# EAGLE library part TLV7111225 (library tlv7111225)
The TLV710 and TLV711 series of dual, low-dropout (LDO) linear regulators are low quiescent current devices with excellent line and load transient performance. These LDOs are designed for power-sensitive applications. These devices provide a typical accuracy of 2% over temperature.
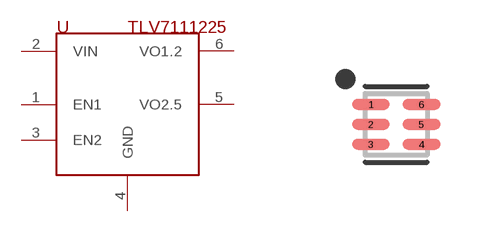
[diagram p0: symbol with the pads of SON50P150X150X80-6N; footprint SON50P150X150X80-6N]

Designator prefix -

## TLV7111225  [SON50P150X150X80-6N]
1  EN1
2  VIN
3  EN2
4  GND
5  VO2.5
6  VO1.2

## Footprint SON50P150X150X80-6N (pad centres in mm)
6-SON (DFN), 0.50 mm pitch, 1.50 X 1.50 X 0.80 mm body 6-pin SON (DFN) package with 0.50 mm pitch with body size 1.50 X 1.50 X 0.80 mm
smd 0.935 x 0.27: 1 -0.632,0.5; 2 -0.632,0; 3 -0.632,-0.5; 4 0.632,-0.5; 5 0.632,0; 6 0.632,0.5